# Altium schematic symbol library bldc.SchLib: 74 symbols
Pins are listed as number, name and electrical type; pins without a type are passive.

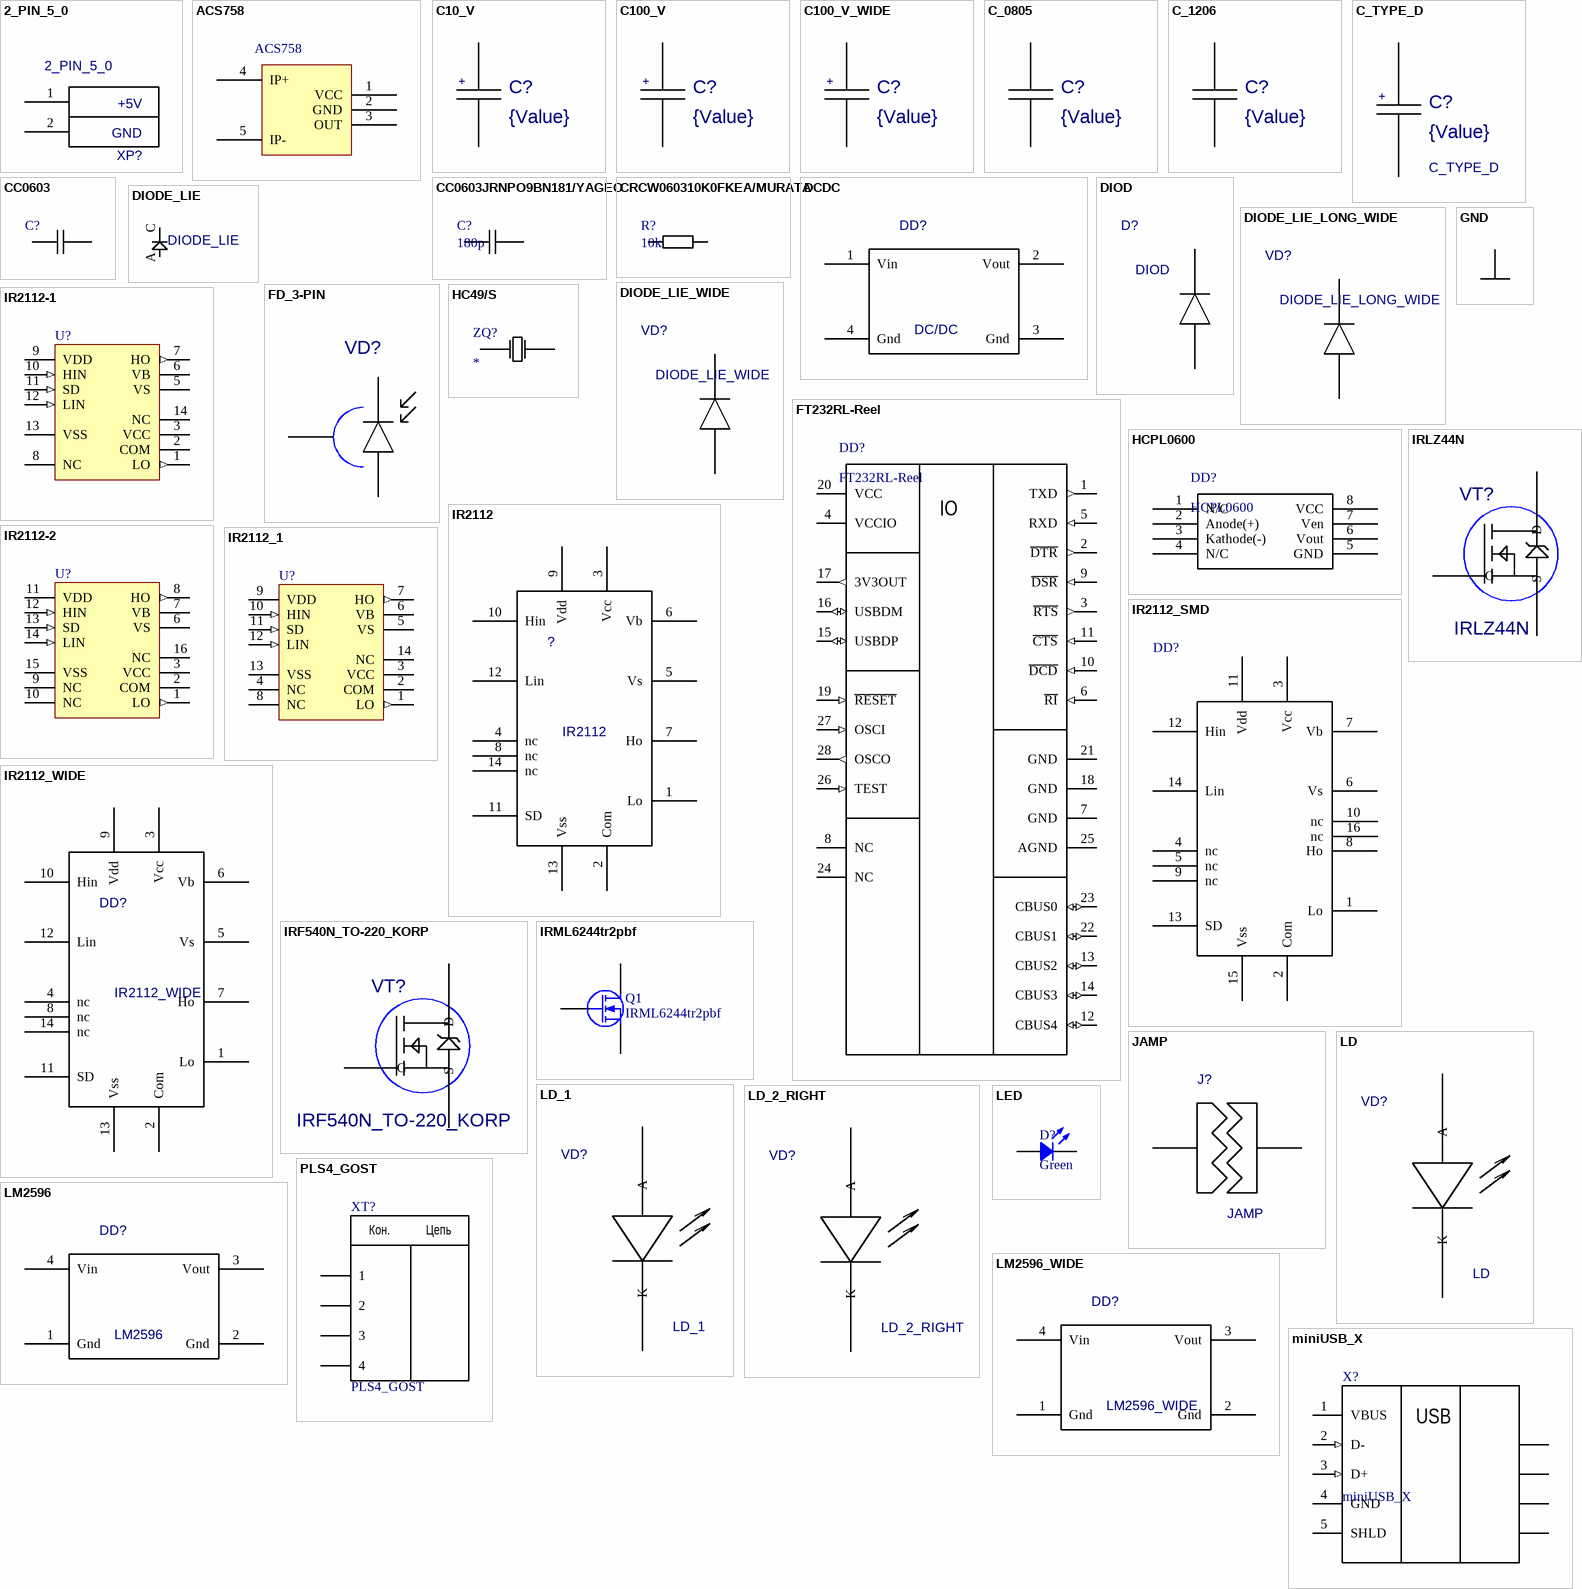
[diagram p0: symbols 2_PIN_5_0 to PLS4_GOST]

## 2_PIN_5_0
designator XP?
Value: *
footprint XP_2_PIN_K_5_0
pins: 1, 2
text: +5V; GND

## ACS758
designator ACS758  (value not drawn)
footprint ACS_SENSOR
pins: 1 VCC, 2 GND, 3 OUT, 4 IP+, 5 IP-

## C10_V
designator C?  value {Value}  (hidden comment: *)
footprint C10_V
pins: 1 A2, 2 A1
text: +

## C100_V
designator C?  value {Value}  (hidden comment: *)
footprint C100
pins: 1 A2, 2 A1
text: +

## C100_V_WIDE
designator C?  value {Value}  (hidden comment: *)
footprint C100_WIDE
pins: 1 A2, 2 A1
text: +

## C_0805
designator C?  value {Value}  (hidden comment: *)
footprint RC0805
pins: 1 A1, 2 A2

## C_1206
designator C?  value {Value}  (hidden comment: *)
footprint RC1206
pins: 1 A1, 2 A2

## C_TYPE_D
designator C?  value {Value}
footprint C_TYPE_D_C_TYPE_D(Primary)
pins: 1 A1, 2 A2
text: +

## CC0603
designator C?
50V 0603 cap
footprint SMT0603CAP/VISHAY
pins: 1, 2

## CC0603JRNPO9BN181/YAGEO
designator C?, comment 180p
180p 50V 0603 cap
footprint SMT0603CAP/VISHAY
pins: 1, 2

## CRCW060310K0FKEA/MURATA
designator R?, comment 10k
footprint SMT0603/VISHAY
pins: 1, 2

## DCDC
designator DD?, comment DC/DC
Value: *
footprint MP2307_WIDE
pins: 1 Vin, 2 Vout, 3 Gnd, 4 Gnd

## DIOD
designator D?
Value: *
footprint DIODE_V_DIOD(Primary)
pins: A, C

## DIODE_LIE
designator VD?
Value: *
footprint DIODE_LIE_DIODE_LIE(Primary)
pins: A, C

## DIODE_LIE_LONG_WIDE
designator VD?
Value: *
footprint DIODE_LIE_LONG_WIDE_DIODE_LIE_LONG_WIDE(Primary)
pins: 1 C, 2 A

## DIODE_LIE_WIDE
designator VD?
Value: *
footprint DIODE_V_WIDE_HOLES_DIODE_LIE_WIDE(Primary)
pins: 1 C, 2 A

## FD_3-PIN
designator VD?  (value not drawn)
Value: *
footprint FD_3_PIN_FD_3-PIN(Primary)
pins: A, K, N

## FT232RL-Reel
designator DD?
USB UART Asynchronous Serial Data Transfer Chip, 28-pin SSOP, Tape and Reel; Manufacturer: FTDI; DatasheetVersion: ver 2.10, Mar-2012; PackageVersion: Mar-12; PackageReference: SSOP-28; PackageDescription: 28-Pin Small Outline Package 0.65 mm Pitch; PartNumber: FT232RL-Reel; ComponentLink1Description: Manufacturer URL; ComponentLink1URL: http://www.ftdichip.com/; ComponentLink2Description: Datasheet; ComponentLink2URL: http://www.ftdichip.com/Support/Documents/DataSheets/ICs/DS_FT232R.pdf
footprint SSOP-28_N (SOP, 28-Leads, Body 10.2x5.3mm, Pitch 0.65mm, IPC Medium Density)
footprint SSOP-28_L (SOP, 28-Leads, Body 10.2x5.3mm, Pitch 0.65mm, IPC High Density)
footprint SSOP-28_M (SOP, 28-Leads, Body 10.2x5.3mm, Pitch 0.65mm, IPC Low Density)
pins: 1 TXD (out), 2 ~{DTR} (out), 3 ~{RTS} (out), 4 VCCIO (power), 5 RXD (in), 6 ~{RI} (in), 7 GND (power), 8 NC, 9 ~{DSR} (in), 10 ~{DCD} (in), 11 ~{CTS} (in), 12 CBUS4 (io), 13 CBUS2 (io), 14 CBUS3 (io), 15 USBDP (io), 16 USBDM (io), 17 3V3OUT (out), 18 GND (power), 19 ~{RESET} (in), 20 VCC (power), 21 GND (power), 22 CBUS1 (io), 23 CBUS0 (io), 24 NC, 25 AGND (power), 26 TEST (in), 27 OSCI (in), 28 OSCO (out)
text: IO

## GND
designator GND?  (value not drawn)
Value: *
pins: 1 GND (power)

## HC49/S
designator ZQ?
Crystal Oscillator
footprint HS49/S
pins: 1, 2

## HCPL0600
designator DD?
footprint HCPL0600
pins: 1 N/C, 2 Anode(+), 3 Kathode(-), 4 N/C, 5 GND, 6 Vout, 7 Ven, 8 VCC

## IR2112
designator ?
Value: *
footprint DIP14
pins: 1 Lo, 2 Com, 3 Vcc, 4 nc, 5 Vs, 6 Vb, 7 Ho, 8 nc, 9 Vdd, 10 Hin, 11 SD, 12 Lin, 13 Vss, 14 nc

## IR2112-1
designator U?
High and Low Side Driver; Note: Pins 8 and 14 are not connected;  Pin 4 is not present; Published: 8-Jun-2000; LatestRevisionDate: 04-Mar-2005; LatestRevisionNote: Stylized 3D Model Added.; DatasheetVersion: PD60026J; PackageReference: PDIP14_A; Publisher: Altium Limited; PackageDescription: DIP; 14 Leads (1 Absent); Row Spacing 7.62 mm; Pitch 2.54 mm; ComponentLink1Description: Manufacturer Link; ComponentLink1URL: http://www.irf.com/; ComponentLink2Description: Datasheet; ComponentLink2URL: http://www.irf.com/product-info/datasheets/data/ir2112.pdf
footprint PDIP14_A (DIP; 14 Leads (1 Absent); Row Spacing 7.62 mm; Pitch 2.54 mm)
3D model PDIP14_A (DIP; 14 Leads (1 Absent); Row Spacing 7.62 mm; Pitch 2.54 mm)
pins: 1 LO (out), 2 COM (power), 3 VCC (power), 5 VS (power), 6 VB (power), 7 HO (out), 8 NC, 9 VDD (power), 10 HIN (in), 11 SD (in), 12 LIN (in), 13 VSS (power), 14 NC

## IR2112-2
designator U?
High and Low Side Driver; Note: Pins 9, 10 and 16 are not connected;  Pins 4 and 5 are not present; Published: 8-Jun-2000; LatestRevisionDate: 04-Mar-2005; LatestRevisionNote: Stylized 3D Model Added.; DatasheetVersion: PD60026J; PackageReference: PDIP16_A; Publisher: Altium Limited; PackageDescription: DIP; 16 Leads (2 Absent); Row Spacing 7.62 mm; Pitch 2.54 mm; ComponentLink1Description: Manufacturer Link; ComponentLink1URL: http://www.irf.com/; ComponentLink2Description: Datasheet; ComponentLink2URL: http://www.irf.com/product-info/datasheets/data/ir2112.pdf
footprint PDIP16_A (DIP; 16 Leads (2 Absent); Row Spacing 7.62 mm; Pitch 2.54 mm)
3D model PDIP16_A (DIP; 16 Leads (2 Absent); Row Spacing 7.62 mm; Pitch 2.54 mm)
pins: 1 LO (out), 2 COM (power), 3 VCC (power), 6 VS (power), 7 VB (power), 8 HO (out), 9 NC, 10 NC, 11 VDD (power), 12 HIN (in), 13 SD (in), 14 LIN (in), 15 VSS (power), 16 NC

## IR2112_1
designator U?
High and Low Side Driver; Note: Pins 4, 8 and 14 are not connected; Published: 8-Jun-2000; LatestRevisionDate: 04-Mar-2005; LatestRevisionNote: Stylized 3D Model Added.; DatasheetVersion: PD60026J; PackageReference: PDIP14; Publisher: Altium Limited; PackageDescription: DIP; 14 Leads; Row Spacing 7.62 mm; Pitch 2.54 mm; ComponentLink1Description: Manufacturer Link; ComponentLink1URL: http://www.irf.com/; ComponentLink2Description: Datasheet; ComponentLink2URL: http://www.irf.com/product-info/datasheets/data/ir2112.pdf
footprint PDIP14 (DIP; 14 Leads; Row Spacing 7.62 mm; Pitch 2.54 mm)
3D model PDIP14 (DIP; 14 Leads; Row Spacing 7.62 mm; Pitch 2.54 mm)
pins: 1 LO (out), 2 COM (power), 3 VCC (power), 4 NC, 5 VS (power), 6 VB (power), 7 HO (out), 8 NC, 9 VDD (power), 10 HIN (in), 11 SD (in), 12 LIN (in), 13 VSS (power), 14 NC

## IR2112_SMD
designator DD?
High and Low Side Driver; Note: Pins 4, 5, 9, 10 and 16 are not connected; Published: 8-Jun-2000; LatestRevisionDate: 13-Apr-2006; LatestRevisionNote: IPC-7351 Footprint Added.; DatasheetVersion: PD60026J; PackageReference: SOIC16; Publisher: Altium Limited; PackageDescription: 16-Pin Small Outline Integrated Circuit 1.27 mm Pitch; Code_JEDEC: MS-013-AA; Code_IPC: SOIC127P1030-16; ComponentLink1Description: Manufacturer Link; ComponentLink1URL: http://www.irf.com/; ComponentLink2Description: Datasheet; ComponentLink2URL: http://www.irf.com/product-info/datasheets/data/ir2112.pdf
footprint SOIC16_N (SOIC, 16-Leads, Body 10.3x7.5mm, Pitch 1.27mm, IPC Medium Density)
footprint SOIC16_L (SOIC, 16-Leads, Body 10.3x7.5mm, Pitch 1.27mm, IPC High Density)
footprint SOIC16_M (SOIC, 16-Leads, Body 10.3x7.5mm, Pitch 1.27mm, IPC Low Density)
3D model SOIC16 (16-Pin Small Outline Integrated Circuit 1.27 mm Pitch)
pins: 1 Lo, 2 Com, 3 Vcc, 4 nc, 5 nc, 6 Vs, 7 Vb, 8 Ho, 9 nc, 10 nc, 11 Vdd, 12 Hin, 13 SD, 14 Lin, 15 Vss, 16 nc

## IR2112_WIDE
designator DD?
Value: *
footprint DIP14_WIDE_HOLES
pins: 1 Lo, 2 Com, 3 Vcc, 4 nc, 5 Vs, 6 Vb, 7 Ho, 8 nc, 9 Vdd, 10 Hin, 11 SD, 12 Lin, 13 Vss, 14 nc

## IRF540N_TO-220_KORP
designator VT?
Value: *
footprint TO-220_IRF_KORP_IRF540N_TO-220_KORP(Primary)
pins: Drain D, Gate G, Source S

## IRLZ44N
designator VT?
Value: *
footprint IRLZ44N
pins: 1 G, 2 D, 3 S

## IRML6244tr2pbf
designator Q1
N-Channel MOSFET; Published: 8-Jun-2000; LatestRevisionDate: 17-Jul-2002; LatestRevisionNote: Re-released for DXP Platform.; PackageVersion: 1995/1996; PackageReference: E3; Publisher: Altium Limited; PackageDescription: TO, Flat Index; 3 In-Line, Axial Leads; Body Dia. 4.6mm; Lead Dia. 0.5 mm (max)
footprint SOT23_N (SOT23, 3-Leads, Body 2.9x1.3mm, Pitch 0.95mm, Lead Span 2.3mm, IPC Medium Density); pin to pad 1>3 2>1 3>2
simulation model NMOS (MOSFET-N)
pins: 1 D, 2 G, 3 S

## JAMP
designator J?
Value: *
footprint JAMP
pins: 1, 2

## LD
designator VD?
Value: *
footprint LD_5W_LD(Primary)
pins: A, K

## LD_1
designator VD?
Value: *
footprint LD_5W_1_LD_1(Primary)
pins: A, K

## LD_2_RIGHT
designator VD?
Value: *
footprint LD_5W_2_RIGHT_LD_2_RIGHT(Primary)
pins: A, K

## LED
designator D?, comment Green
Chip LED; Value: Green
footprint LED 0805/2012 BLUE (Chip Diode, 2-Leads, Body 2.00x1.25mm, IPC Medium Density)
footprint LED 0805/2012 GREEN (Chip Diode, 2-Leads, Body 2.00x1.25mm, IPC Medium Density)
footprint LED 0805/2012 RED (Chip Diode, 2-Leads, Body 2.00x1.25mm, IPC Medium Density)
footprint LED 0805/2012 YELLOW (Chip Diode, 2-Leads, Body 2.00x1.25mm, IPC Medium Density)
pins: 1, 2

## LM2596
designator DD?
Value: *
footprint LM2596
pins: 1 Gnd, 2 Gnd, 3 Vout, 4 Vin

## LM2596_WIDE
designator DD?
Value: *
footprint LM2596_WIDE
pins: 1 Gnd, 2 Gnd, 3 Vout, 4 Vin

## miniUSB_X
designator X?
USB 2.0, Right Angle, SMT, A Type, Receptacle, 5 Position, Black; ContactMaterial: Phosphor Bronze; ContactPlating: Gold (30) over Nickel; PCB_Layout: Complies with manufacturer's recommendation.; DrillSize: Corresponds to nominal value.; PanelGround: Without; Published: 15-Jul-2004; DatasheetDocument: 15-Nov-2002; PackageDocument: 15-Nov-2002; PackageReference: 440478; Publisher: Altium Limited; HousingMaterial: Thermoplastic; ComponentLink1Description: Manufacturer Link; ComponentLink1URL: http://www.tycoelectronics.com/; ComponentLink2Description: Packaging Specification; ComponentLink2URL: http://ecommas.tycoelectronics.com/commerce/DocumentDelivery/DDEController?Action=showdoc&DocId=Customer+Drawing%7F440478%7FB%7Fpdf%7FEnglish%7FC_440478_B.pdf
signal-integrity model USB2.0
footprint miniUSB_AB (Connector; USB2.0, Type AB, SM; 5 Position; Right Angle)
pins: 1 VBUS (power) "Power", 2 D- (in) "-DATA", 3 D+ (in) "+DATA", 4 GND (power) "Ground", 5 SHLD "Shield", 6 SHLD "Shield", 7 SHLD "Shield", 8 SHLD "Shield", 9 SHLD "Shield"
text: USB

## PLS4_GOST
designator XT?
Header, 5-Pin; LatestRevisionDate: 17-Jul-2002; LatestRevisionNote: Re-released for DXP Platform.; Publisher: Altium Limited
signal-integrity model Connector
footprint XP_4_PIN_2
pins: 1, 2, 3, 4
text: Кон.; Цепь

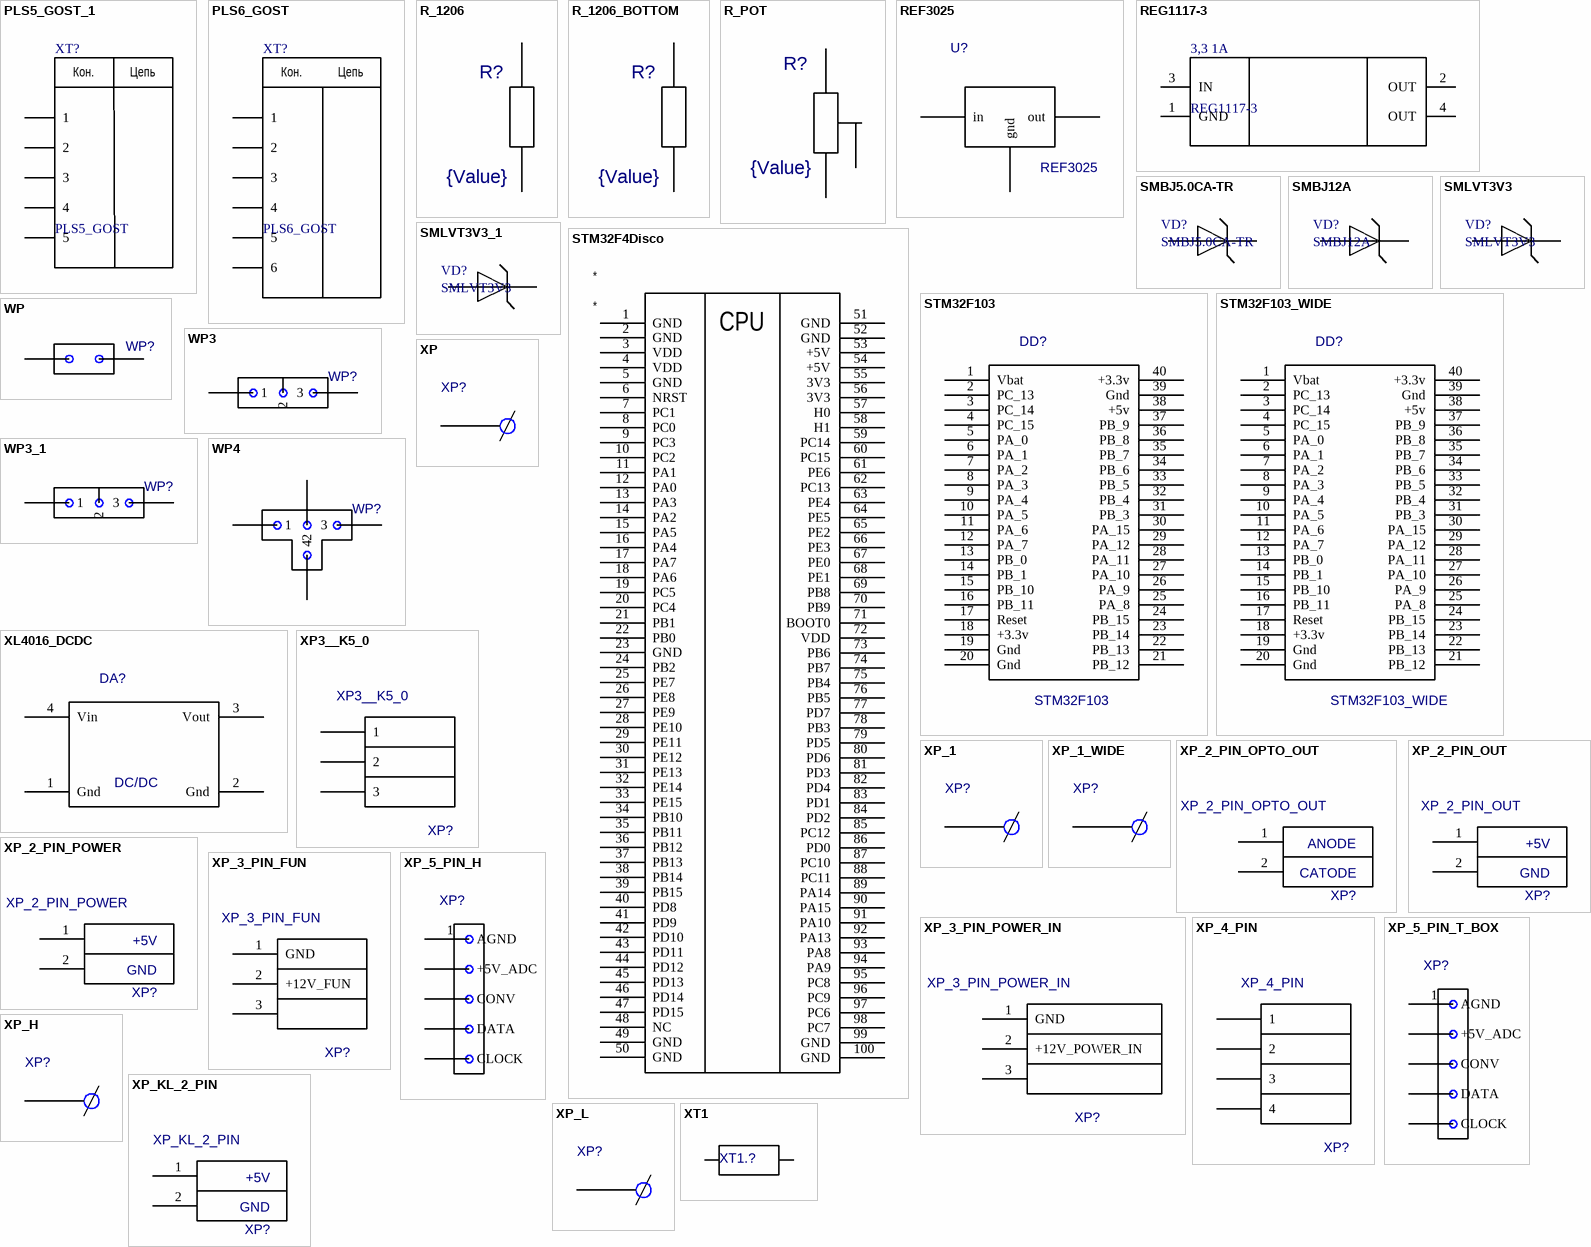
[diagram p1: symbols PLS5_GOST_1 to XT1]

## PLS5_GOST_1
designator XT?, comment PLS5_GOST
Header, 5-Pin; LatestRevisionDate: 17-Jul-2002; LatestRevisionNote: Re-released for DXP Platform.; Publisher: Altium Limited
signal-integrity model Connector
footprint XP_5_PIN
pins: 1, 2, 3, 4, 5
text: Кон.; Цепь

## PLS6_GOST
designator XT?
Header, 6-Pin; LatestRevisionDate: 17-Jul-2002; LatestRevisionNote: Re-released for DXP Platform.; Publisher: Altium Limited
signal-integrity model Connector
footprint XP_6_PIN
pins: 1, 2, 3, 4, 5, 6
text: Кон.; Цепь

## R_1206
designator R?  value {Value}  (hidden comment: R_1206)
footprint CC1206
pins: 1 A1, 2 A2

## R_1206_BOTTOM
designator R?  value {Value}  (hidden comment: R_1206_BOTTOM)
footprint BOTTOM_1206
pins: 1 A1, 2 A2

## R_POT
designator R?  value {Value}  (hidden comment: R_POT)
footprint POT3T_1
pins: 1 A1, 2 A3, 3 A2

## REF3025
designator U?
Value: *
pins: 1 in, 2 gnd, 3 out

## REG1117-3
designator 3,3 1A
800mA and 1A Low Dropout Positive Regulator 2.85V, 3.3V, 5V, and Adjustable; Published: 8-Jun-2000; LatestRevisionDate: 17-Jul-2002; LatestRevisionNote: Re-released for DXP Platform.; DatasheetVersion: Sep-1997; PackageVersion: revC; PackageReference: ZZ311; Publisher: Altium Limited; PackageDescription: SOT-223/SC-73; 4 Leads; Body 6.7 x 7.3 mm, inc. leads (LxW max); ComponentLink1Description: Manufacturer Link; ComponentLink1URL: http://www.ti.com/; ComponentLink2Description: Datasheet; ComponentLink2URL: http://www-s.ti.com/sc/ds/REG1117.pdf
footprint ZZ311 (SOT-223/SC-73; 4 Leads; Body 6.7 x 7.3 mm, inc. leads (LxW max))
pins: 1 GND (power), 2 OUT (power), 3 IN (power), 4 OUT (power)

## SMBJ5.0CA-TR
designator VD?
footprint DO214AA SMB (Molded Diode, 2-Leads, Body 4.31x3.62mm, IPC Medium Density)
pins: 1, 2

## SMBJ12A
designator VD?
footprint DO214AA SMB (Molded Diode, 2-Leads, Body 4.31x3.62mm, IPC Medium Density)
pins: 1, 2

## SMLVT3V3
designator VD?
footprint DO214AA SMB (Molded Diode, 2-Leads, Body 4.31x3.62mm, IPC Medium Density)
pins: 1, 2

## SMLVT3V3_1
designator VD?, comment SMLVT3V3
footprint DO214AA SMB (Molded Diode, 2-Leads, Body 4.31x3.62mm, IPC Medium Density)
pins: 1, 3 2

## STM32F4Disco
designator *
footprint STM32F407-Disco
pins: 1 GND, 2 GND, 3 VDD, 4 VDD, 5 GND, 6 NRST, 7 PC1, 8 PC0, 9 PC3, 10 PC2, 11 PA1, 12 PA0, 13 PA3, 14 PA2, 15 PA5, 16 PA4, 17 PA7, 18 PA6, 19 PC5, 20 PC4, 21 PB1, 22 PB0, 23 GND, 24 PB2, 25 PE7, 26 PE8, 27 PE9, 28 PE10, 29 PE11, 30 PE12, 31 PE13, 32 PE14, 33 PE15, 34 PB10, 35 PB11, 36 PB12, 37 PB13, 38 PB14, 39 PB15, 40 PD8, 41 PD9, 42 PD10, 43 PD11, 44 PD12, 45 PD13, 46 PD14, 47 PD15, 48 NC, 49 GND, 50 GND, 51 GND, 52 GND, 53 +5V, 54 +5V, 55 3V3, 56 3V3, 57 H0, 58 H1, 59 PC14, 60 PC15, 61 PE6, 62 PC13, 63 PE4, 64 PE5, 65 PE2, 66 PE3, 67 PE0, 68 PE1, 69 PB8, 70 PB9, 71 BOOT0, 72 VDD, 73 PB6, 74 PB7, 75 PB4, 76 PB5, 77 PD7, 78 PB3, 79 PD5, 80 PD6, 81 PD3, 82 PD4, 83 PD1, 84 PD2, 85 PC12, 86 PD0, 87 PC10, 88 PC11, 89 PA14, 90 PA15, 91 PA10, 92 PA13, 93 PA8, 94 PA9, 95 PC8, 96 PC9, 97 PC6, 98 PC7, 99 GND, 100 GND
text: CPU

## STM32F103
designator DD?
Value: *
footprint STM32F103_BOARD_WIDE
pins: 1 Vbat, 2 PC_13, 3 PC_14, 4 PC_15, 5 PA_0, 6 PA_1, 7 PA_2, 8 PA_3, 9 PA_4, 10 PA_5, 11 PA_6, 12 PA_7, 13 PB_0, 14 PB_1, 15 PB_10, 16 PB_11, 17 Reset, 18 +3.3v, 19 Gnd, 20 Gnd, 21 PB_12, 22 PB_13, 23 PB_14, 24 PB_15, 25 PA_8, 26 PA_9, 27 PA_10, 28 PA_11, 29 PA_12, 30 PA_15, 31 PB_3, 32 PB_4, 33 PB_5, 34 PB_6, 35 PB_7, 36 PB_8, 37 PB_9, 38 +5v, 39 Gnd, 40 +3.3v

## STM32F103_WIDE
designator DD?
Value: *
footprint STM32F103_BOARD_WIDE
pins: 1 Vbat, 2 PC_13, 3 PC_14, 4 PC_15, 5 PA_0, 6 PA_1, 7 PA_2, 8 PA_3, 9 PA_4, 10 PA_5, 11 PA_6, 12 PA_7, 13 PB_0, 14 PB_1, 15 PB_10, 16 PB_11, 17 Reset, 18 +3.3v, 19 Gnd, 20 Gnd, 21 PB_12, 22 PB_13, 23 PB_14, 24 PB_15, 25 PA_8, 26 PA_9, 27 PA_10, 28 PA_11, 29 PA_12, 30 PA_15, 31 PB_3, 32 PB_4, 33 PB_5, 34 PB_6, 35 PB_7, 36 PB_8, 37 PB_9, 38 +5v, 39 Gnd, 40 +3.3v

## WP
designator WP?  (value not drawn)
Value: *
footprint WP
pins: 1, 2

## WP3
designator WP?  (value not drawn)
Value: *
footprint WP3
pins: 1, 2, 3

## WP3_1
designator WP?  (value not drawn)
Value: *
footprint WP3
pins: 1, 2, 3

## WP4
designator WP?  (value not drawn)
Value: *
footprint WP4
pins: 1, 2, 3, 4

## XL4016_DCDC
designator DA?, comment DC/DC
Value: *
footprint XL4016
pins: 1 Gnd, 2 Gnd, 3 Vout, 4 Vin

## XP
designator XP?  (value not drawn)
Value: *
footprint XP
pins: 1

## XP3__K5_0
designator XP?
Value: *
footprint XP_3_PIN_K_5_0
pins: 1, 2, 3

## XP_1
designator XP?  (value not drawn)
Value: *
footprint XP
pins: 1

## XP_1_WIDE
designator XP?  (value not drawn)
Value: *
footprint XP_WIDE
pins: 1

## XP_2_PIN_OPTO_OUT
designator XP?
Value: *
footprint XP_2_PIN
pins: 1 0, 2
text: ANODE; CATODE

## XP_2_PIN_OUT
designator XP?
Value: *
footprint XP_2_PIN_OUT
pins: 1, 2
text: +5V; GND

## XP_2_PIN_POWER
designator XP?
Value: *
footprint XP_2_PIN_OUT
pins: 1 0, 2
text: +5V; GND

## XP_3_PIN_FUN
designator XP?
Value: *
footprint XP_3_PIN_OUT
pins: 1 GND, 2 +12V_FUN, 3

## XP_3_PIN_POWER_IN
designator XP?
Value: *
footprint XP_3_PIN_OUT
pins: 1 GND, 2 +12V_POWER_IN, 3

## XP_4_PIN
designator XP?
Value: *
footprint XP_4_PIN
pins: 1, 2, 3, 4

## XP_5_PIN_H
designator XP?  (value not drawn)
Value: *
footprint XP_5_PIN_H
pins: 1 AGND, 2 +5V_ADC, 3 CONV, 4 DATA, 5 CLOCK

## XP_5_PIN_T_BOX
designator XP?  (value not drawn)
Value: *
footprint XP_5_PIN
pins: 1 AGND, 2 +5V_ADC, 3 CONV, 4 DATA, 5 CLOCK

## XP_H
designator XP?  (value not drawn)
Value: *
footprint KONT_HARD
pins: 1 0

## XP_KL_2_PIN
designator XP?
Value: *
footprint XP_2_PIN_KLEMM
pins: 1, 2
text: +5V; GND

## XP_L
designator XP?  (value not drawn)
Value: *
footprint KONT_LIGHT
pins: 1 0

## XT1
designator XT1.?  (value not drawn)
Value: *
footprint XT
pins: 1, 2